# Altium schematic symbol library Connectors.SchLib: 22 symbols
Pins are listed as number, name and electrical type; pins without a type are passive.

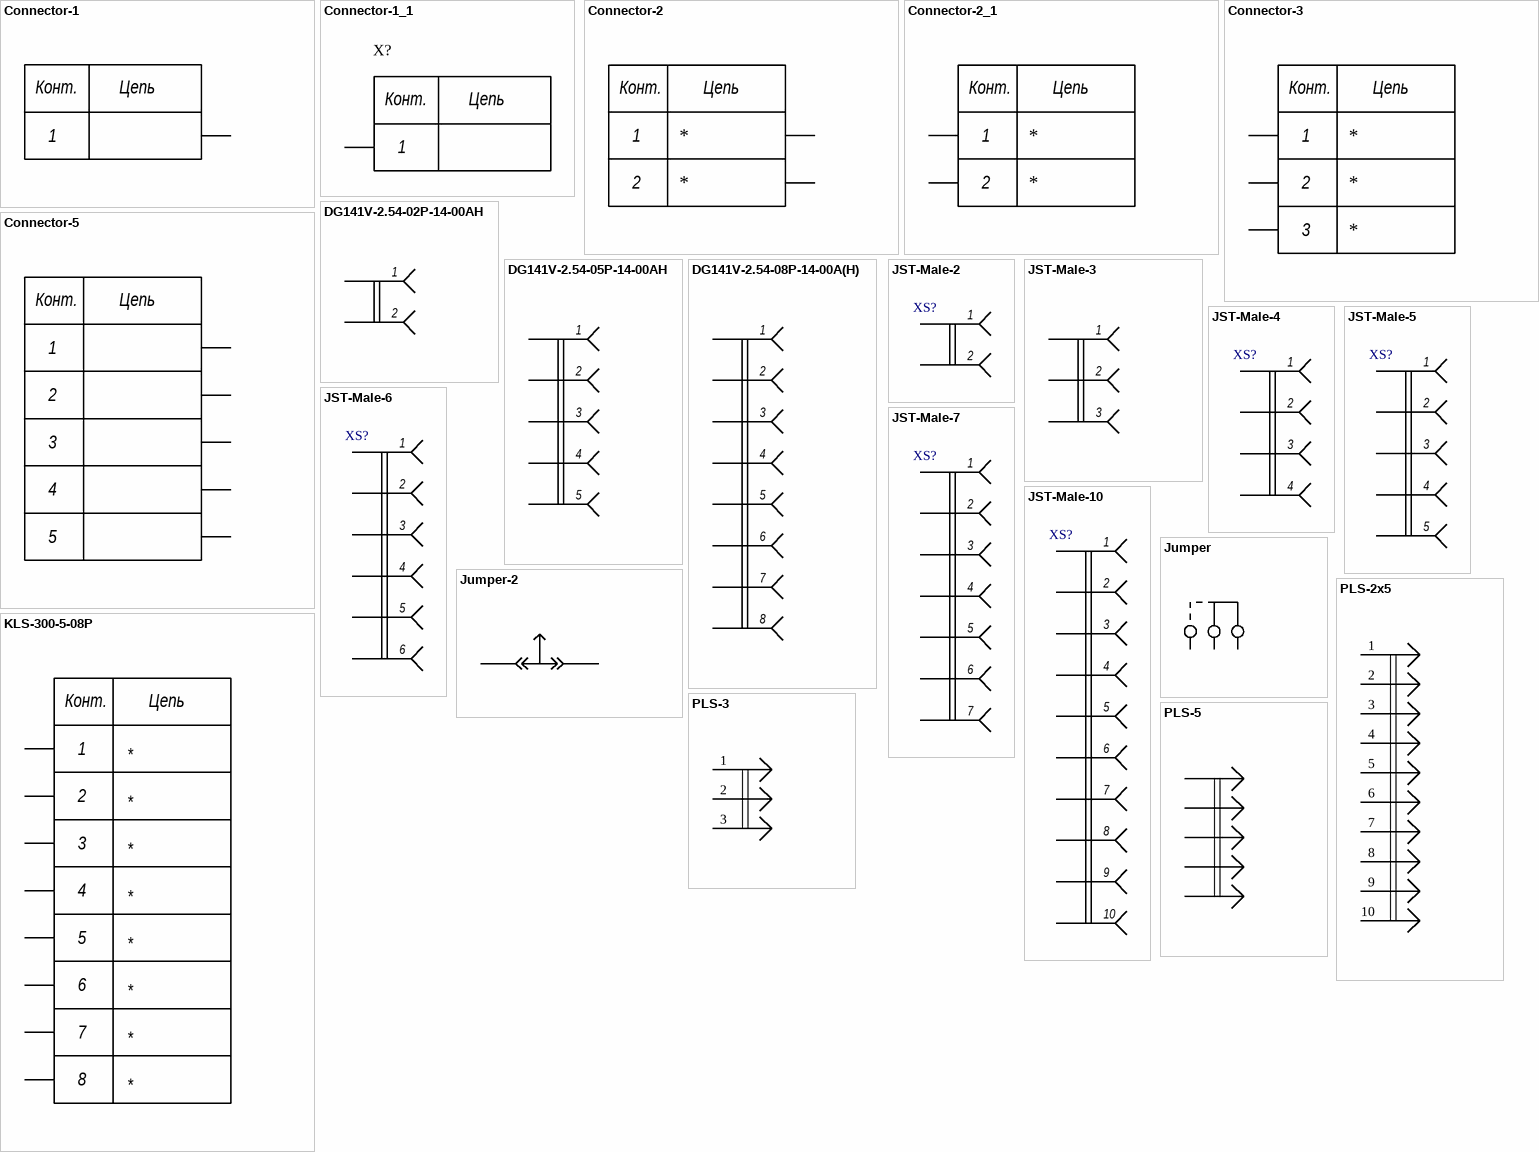
[diagram p0: symbols Connector-1 to PLS-5]

## Connector-1
designator X?
Name: Клеммник винтовой 10х5мм, М4; ComponentLink1Description: Product link
footprint PCBM4
pins: 1
text: Конт.; Цепь

## Connector-1_1
designator X?
Name: Клеммник винтовой 10х5мм, М4; ComponentLink1Description: Product link
footprint PCBM4
pins: 1
text: Конт.; Цепь

## Connector-2
designator X?, comment DG950-02
ComponentLink1Description: Product link; ComponentLink1URL: https://www.chipdip.ru/product/stps2h100a-2; Value 2: *; Value 1: *
footprint DG950-02
footprint KF300-5-2
pins: 1, 2
text: Конт.; Цепь

## Connector-2_1
designator X?, comment DG950-02
Name: Клеммник винтовой KLS2-300-5.00-02P ф KLS electronic; ComponentLink1Description: Product link; Value 2: *; Value 1: *
footprint KF300-5-2
pins: 1, 2
text: Конт.; Цепь

## Connector-3
designator X?
ComponentLink1Description: Product link; ComponentLink1URL: https://www.chipdip.ru/product/stps2h100a-2; Value 3: *; Value 2: *; Value 1: *
footprint DG301-5-03
pins: 1, 2, 3
text: Конт.; Цепь

## Connector-5
designator X?
ComponentLink1Description: Product link; ComponentLink1URL: https://www.chipdip.ru/product/stps2h100a-2
footprint KLS300-5-6
pins: 1 *, 2 *, 3 *, 4 *, 5 *
text: Конт.; Цепь

## DG141V-2.54-02P-14-00AH
designator XS*
GOST_Name_1: DG141V-2.54-02P-14-00AH, ф. Degson Electronics Co; ComponentLink1Description: Product link; ComponentLink1URL: https://www.promelec.ru/product/403282/
footprint DG141V-2.54-02P
pins: 1, 2

## DG141V-2.54-05P-14-00AH
designator XS*
Name: DG141V-2.54-05P-14-00AH, ф. Degson Electronics Co; ComponentLink1Description: Product link; ComponentLink1URL: https://www.promelec.ru/product/403282/
footprint DG141V-2.54-05P
pins: 1, 2, 3, 4, 5

## DG141V-2.54-08P-14-00A(H)
designator XS?, comment DG141V-2.54-05P-14-00AH
Name: DG141V-2.54-08P-14-00A(H), ф. Degson Electronics Co; ComponentLink1Description: Product link; ComponentLink1URL: https://www.promelec.ru/product/102606/; GOST_Name_1: DG141V-2.54-08P-14-00A(H), ф. Degson Electronics Co
footprint DG141V-2.54-08P
pins: 1, 2, 3, 4, 5, 6, 7, 8

## JST-Male-2
designator XS?  (value not drawn)
Name: JST-2.54 x2; GOST_Name_1: JST-2.54 x2
footprint JST-2
pins: 1, 2

## JST-Male-3
designator XS?
Name: JST-2.54 x3
footprint JST-3
pins: 1, 2, 3

## JST-Male-4
designator XS?  (value not drawn)
Name: JST-2.54 x4
footprint JST-4
pins: 1, 2, 3, 4

## JST-Male-5
designator XS?  (value not drawn)
Name: JST-2.54 x5
footprint JST-5
pins: 1, 2, 3, 4, 5

## JST-Male-6
designator XS?  (value not drawn)
Name: JST-2.54 x6
footprint JST-6
pins: 1, 2, 3, 4, 5, 6

## JST-Male-7
designator XS?  (value not drawn)
Name: JST-2.54 x7
footprint JST-7
pins: 1, 2, 3, 4, 5, 6, 7

## JST-Male-10
designator XS?  (value not drawn)
Name: JST-2.54 x10
footprint JST-10
pins: 1, 2, 3, 4, 5, 6, 7, 8, 9, 10

## Jumper
designator JP?
ComponentLink1Description: Product link; ComponentLink1URL: https://www.chipdip.ru/product/stps2h100a-2
footprint PLS3
pins: 1 4, 2 5, 3 6

## Jumper-2
designator JP?  (no BOM)
ComponentLink1Description: Product link; ComponentLink1URL: https://www.chipdip.ru/product/stps2h100a-2
footprint PLS2
pins: 1 4, 2 4

## KLS-300-5-08P
designator X?
Value8: *; Value7: *; Value6: *; Value5: *; Value4: *; Value3: *; Value2: *; Value1: *
footprint KLS-300-5-08P
pins: 1, 2, 3, 4, 5, 6, 7, 8
text: Конт.; Цепь

## PLS-2x5
designator X?
ComponentLink1Description: Product link
footprint PLS-2x5
pins: 1, 2, 3, 4, 5, 6, 7, 8, 9, 10

## PLS-3
designator X?
Name: Вилка штыревая 2.54мм 1x5; ComponentLink1Description: Product link
footprint PLS3
pins: 1, 2, 3

## PLS-5
designator XP?
Name: Вилка штыревая 2.54мм 1x5; ComponentLink1Description: Product link; GOST_Name_1: Вилка штыревая 2.54мм 1x5
footprint PLS-5
pins: 1, 2, 3, 4, 5